# EAGLE library part Q_LFLS7366R-S (library MRDT-2014-All)
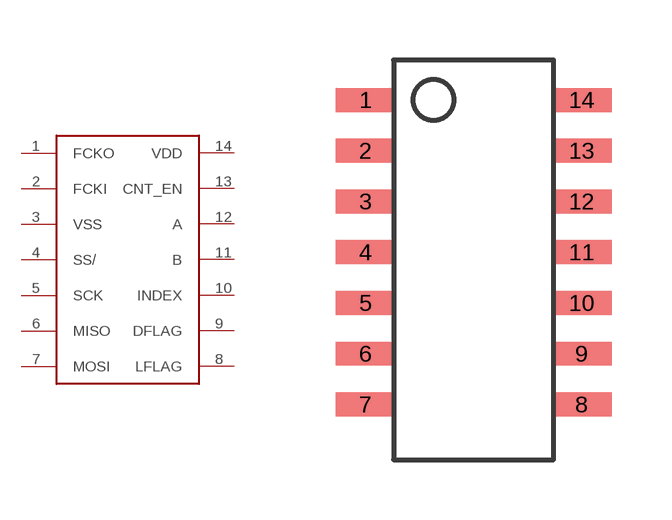
[diagram p23: symbol with the pads of SOIC14; footprint SOIC14]

Designator prefix Q

## Q_LFLS7366R-S  [SOIC14]
1  FCKO
2  FCKI
3  VSS
4  SS/
5  SCK
6  MISO
7  MOSI
8  LFLAG
9  DFLAG
10  INDEX
11  B
12  A
13  CNT_EN
14  VDD

## Footprint SOIC14 (pad centres in mm)
smd 1.5 x 0.6: 1 -2.7,0; 2 -2.7,-1.27; 3 -2.7,-2.54; 4 -2.7,-3.81; 5 -2.7,-5.08; 6 -2.7,-6.35; 7 -2.7,-7.62; 8 2.7,-7.62; 9 2.7,-6.35; 10 2.7,-5.08; 11 2.7,-3.81; 12 2.7,-2.54; 13 2.7,-1.27; 14 2.7,0